# EAGLE library part STM32F042F4P6 (library LDC1614)
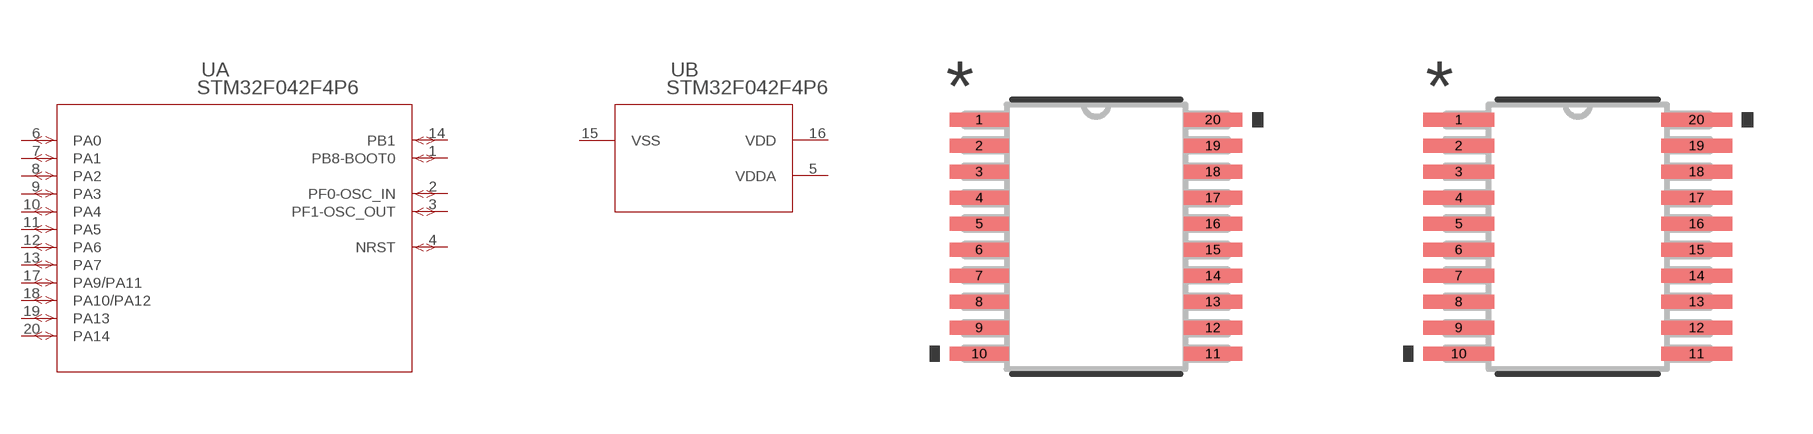
[diagram p2: symbol with the pads of TSSOP20; footprints TSSOP20, TSSOP20-M]

Designator prefix U; gates A=STM32F042FXP B=STM32F042FXP_00

## STM32F042F4P6 (COPYRIGHT: Copyright (C) 2022 Ultra Librarian. All rights reserved.; DIGI-KEY_PART_NUMBER_1: 497-17343-ND; MANUFACTURER_PART_NUMBER: STM32F042F4P6; MFR_NAME: STMicroelectronics)  [TSSOP20]
1  A:PB8-BOOT0
2  A:PF0-OSC_IN
3  A:PF1-OSC_OUT
4  A:NRST
5  B:VDDA  pwr
6  A:PA0
7  A:PA1
8  A:PA2
9  A:PA3
10  A:PA4
11  A:PA5
12  A:PA6
13  A:PA7
14  A:PB1
15  B:VSS  pwr
16  B:VDD  pwr
17  A:PA9/PA11
18  A:PA10/PA12
19  A:PA13
20  A:PA14

## STM32F042F4P6TSSOP20-M (COPYRIGHT: Copyright (C) 2022 Ultra Librarian. All rights reserved.; DIGI-KEY_PART_NUMBER_1: 497-17343-ND; MANUFACTURER_PART_NUMBER: STM32F042F4P6; MFR_NAME: STMicroelectronics)  [TSSOP20-M]
Pads as for TSSOP20

## STM32F042F4P6TSSOP20-L (COPYRIGHT: Copyright (C) 2022 Ultra Librarian. All rights reserved.; DIGI-KEY_PART_NUMBER_1: 497-17343-ND; MANUFACTURER_PART_NUMBER: STM32F042F4P6; MFR_NAME: STMicroelectronics)  [TSSOP20-L]
Pads as for TSSOP20

## Footprint TSSOP20 (pad centres in mm)
smd 1.473 x 0.356: 1 -2.921,2.925; 2 -2.921,2.275; 3 -2.921,1.625; 4 -2.921,0.975; 5 -2.921,0.325; 6 -2.921,-0.325; 7 -2.921,-0.975; 8 -2.921,-1.625; 9 -2.921,-2.275; 10 -2.921,-2.925; 11 2.921,-2.925; 12 2.921,-2.275; 13 2.921,-1.625; 14 2.921,-0.975; 15 2.921,-0.325; 16 2.921,0.325; 17 2.921,0.975; 18 2.921,1.625; 19 2.921,2.275; 20 2.921,2.925

## Footprint TSSOP20-M (pad centres in mm)
smd 1.778 x 0.356: 1 -2.972,2.925; 2 -2.972,2.275; 3 -2.972,1.625; 4 -2.972,0.975; 5 -2.972,0.325; 6 -2.972,-0.325; 7 -2.972,-0.975; 8 -2.972,-1.625; 9 -2.972,-2.275; 10 -2.972,-2.925; 11 2.972,-2.925; 12 2.972,-2.275; 13 2.972,-1.625; 14 2.972,-0.975; 15 2.972,-0.325; 16 2.972,0.325; 17 2.972,0.975; 18 2.972,1.625; 19 2.972,2.275; 20 2.972,2.925

## Footprint TSSOP20-L (pad centres in mm)
smd 1.168 x 0.305: 1 -2.87,2.925; 2 -2.87,2.275; 3 -2.87,1.625; 4 -2.87,0.975; 5 -2.87,0.325; 6 -2.87,-0.325; 7 -2.87,-0.975; 8 -2.87,-1.625; 9 -2.87,-2.275; 10 -2.87,-2.925; 11 2.87,-2.925; 12 2.87,-2.275; 13 2.87,-1.625; 14 2.87,-0.975; 15 2.87,-0.325; 16 2.87,0.325; 17 2.87,0.975; 18 2.87,1.625; 19 2.87,2.275; 20 2.87,2.925